# Altium schematic symbol library LP38693_LDOSchLib.SchLib: 1 symbol
Pins are listed as number, name and electrical type; pins without a type are passive.

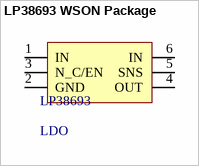
[diagram p0: symbol LP38693 WSON Package]

## LP38693 WSON Package
designator LP38693, comment LDO
footprint WSON-6
pins: 1 IN, 2 GND, 3 N_C/EN, 4 OUT, 5 SNS, 6 IN